# EAGLE library part SPTA_1/8-3,5 (library isystems-phoenixcontact)
Phoenix Contact SPTA_1/8-3,5 PN: 1752162 Nennstrom: 9 A, Nennspannung: 200 V, Anschlussart: Push-in-Federanschluss Leiterquerschnitt starr min 0,2 mm² Leiterquerschnitt starr max 1,5 mm² Leiterquerschnitt flexibel min 0,2 mm² Leiterquerschnitt flexibel max 1 mm² Leiterquerschnitt flexibel m. Aderendhülse ohne Kunststoffhülse min 0,25 mm² Leiterquerschnitt flexibel m. Aderendhülse ohne Kunststoffhülse max 0,75 mm² Leiterquerschnitt flexibel m. Aderendhülse m. Kunststoffhülse min 0,25 mm² Leiterquerschnitt flexibel m. Aderendhülse m. Kunststoffhülse max 0,75 mm² Leiterquerschnitt AWG min 24 Leiterquerschnitt AWG max 16
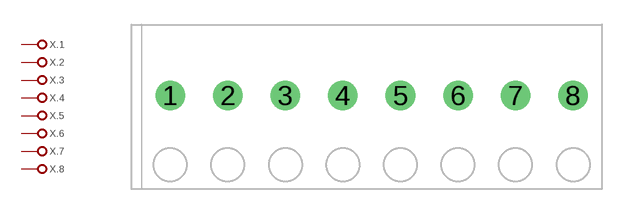
[diagram p24: symbol with the pads of STPA_1/8-3,5; footprint STPA_1/8-3,5]

Designator prefix X; gates .1=CONX1 .2=CONX1 .3=CONX1 .4=CONX1 .5=CONX1 .6=CONX1 .7=CONX1 .8=CONX1

## SPTA_1/8-3,5  [STPA_1/8-3,5]
1  .1:P
2  .2:P
3  .3:P
4  .4:P
5  .5:P
6  .6:P
7  .7:P
8  .8:P

## Footprint STPA_1/8-3,5 (pad centres in mm)
drill 1.1 pad 1.8: 1 -12.25,0; 2 -8.75,0; 3 -5.25,0; 4 -1.75,0; 5 1.75,0; 6 5.25,0; 7 8.75,0; 8 12.25,0